# EAGLE library part 612X5020621 (library Wire-to-Board (rev18a))
WR-BHD 2.54mm Male SMT Box Header High Temperature, 50 pins=>Code : Con_WTB_BHD_2.54_Male_SMT_612X5020621(X=0;X=3) <http://katalog.we-online.de/media/thumbs2/eican/thb_Con_WTB_BHD_2.54_Male_SMT_6120xx20621_pf2.jpg> 6123XX20621: http://katalog.we-online.de/en/em/BHD_2_54_SMT_MALE_BOX_HEADER_REEL_6123XX20621 6120XX20621: http://katalog.we-online.de/en/em/612_0xx_206_21 Created 2014-06-05, Karrer Zheng 2014 (C) Würth Elektronik
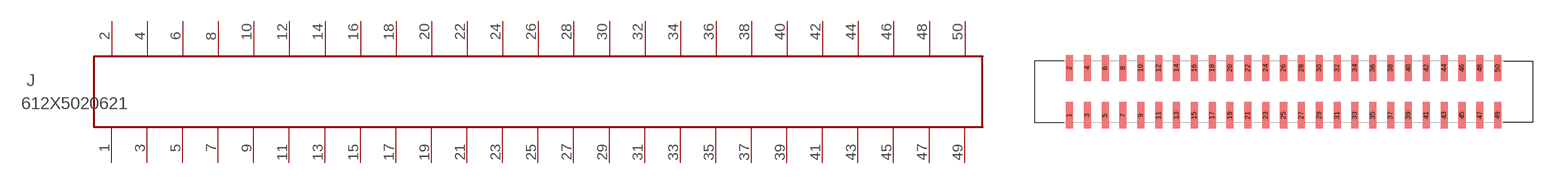
[diagram p109: symbol with the pads of 612X5020621; footprint 612X5020621]

Designator prefix J

## 612X5020621  [612X5020621]
1  1  pas
2  2  pas
3  3  pas
4  4  pas
5  5  pas
6  6  pas
7  7  pas
8  8  pas
9  9  pas
10  10  pas
11  11  pas
12  12  pas
13  13  pas
14  14  pas
15  15  pas
16  16  pas
17  17  pas
18  18  pas
19  19  pas
20  20  pas
21  21  pas
22  22  pas
23  23  pas
24  24  pas
25  25  pas
26  26  pas
27  27  pas
28  28  pas
29  29  pas
30  30  pas
31  31  pas
32  32  pas
33  33  pas
34  34  pas
35  35  pas
36  36  pas
37  37  pas
38  38  pas
39  39  pas
40  40  pas
41  41  pas
42  42  pas
43  43  pas
44  44  pas
45  45  pas
46  46  pas
47  47  pas
48  48  pas
49  49  pas
50  50  pas

## Footprint 612X5020621 (pad centres in mm)
WR-BHD 2.54mm Male SMT Box Header High Temperature, 50 pins
smd 1 x 3.75: 1 -30.48,-3.375; 2 -30.48,3.375; 3 -27.94,-3.375; 4 -27.94,3.375; 5 -25.4,-3.375; 6 -25.4,3.375; 7 -22.86,-3.375; 8 -22.86,3.375; 9 -20.32,-3.375; 10 -20.32,3.375; 11 -17.78,-3.375; 12 -17.78,3.375; 13 -15.24,-3.375; 14 -15.24,3.375; 15 -12.7,-3.375; 16 -12.7,3.375; 17 -10.16,-3.375; 18 -10.16,3.375; 19 -7.62,-3.375; 20 -7.62,3.375; 21 -5.08,-3.375; 22 -5.08,3.375; 23 -2.54,-3.375; 24 -2.54,3.375; 25 0,-3.375; 26 0,3.375; 27 2.54,-3.375; 28 2.54,3.375; 29 5.08,-3.375; 30 5.08,3.375; 31 7.62,-3.375; 32 7.62,3.375; 33 10.16,-3.375; 34 10.16,3.375; 35 12.7,-3.375; 36 12.7,3.375; 37 15.24,-3.375; 38 15.24,3.375; 39 17.78,-3.375; 40 17.78,3.375; 41 20.32,-3.375; 42 20.32,3.375; 43 22.86,-3.375; 44 22.86,3.375; 45 25.4,-3.375; 46 25.4,3.375; 47 27.94,-3.375; 48 27.94,3.375; 49 30.48,-3.375; 50 30.48,3.375